# EAGLE library part WM8741 (library ICs)
Very high performance 24bit 192kHz Wolfson Micro audio DAC.
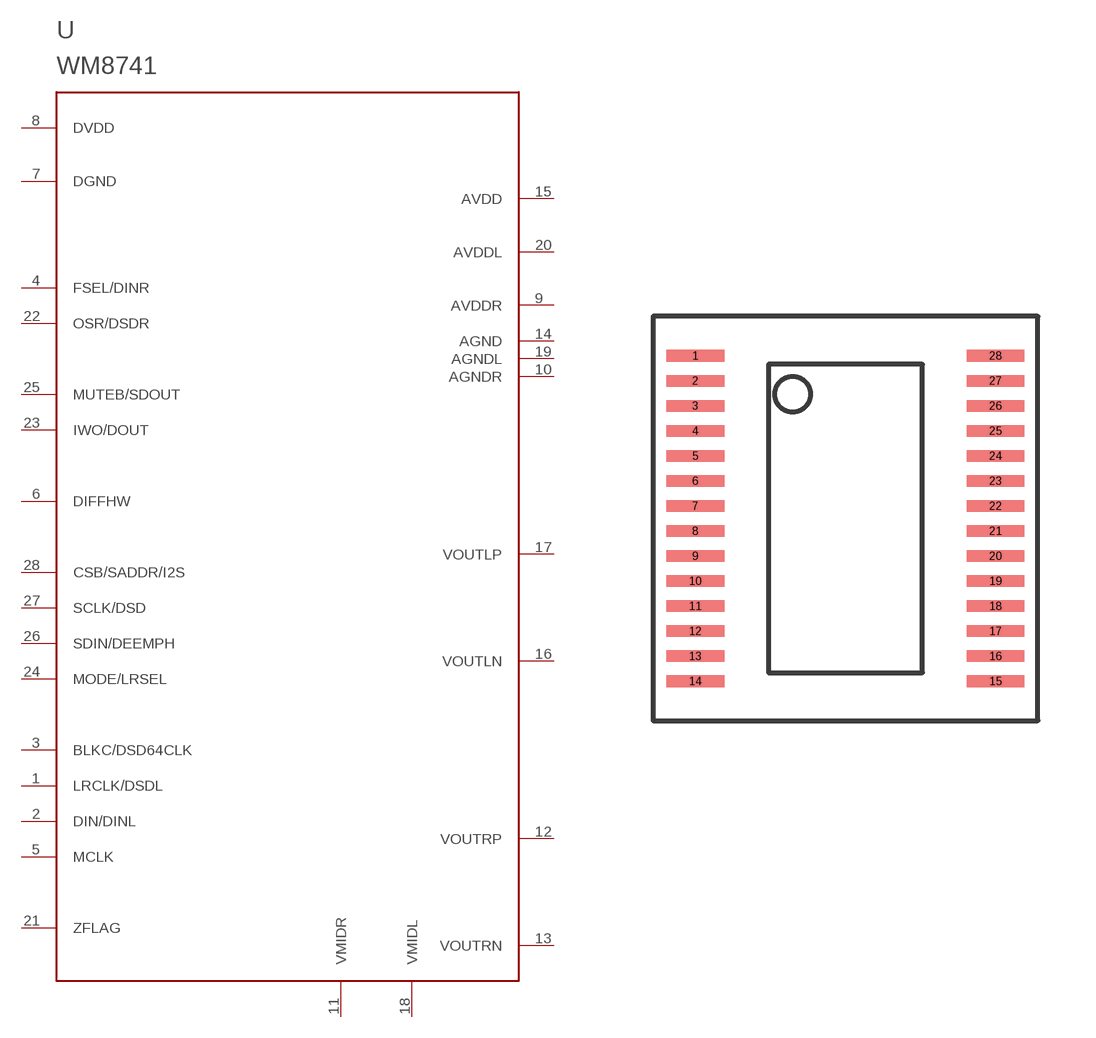
[diagram p24: symbol with the pads of SSOP28; footprint SSOP28]

Designator prefix U

## WM8741GEDS/V (FARNELL: 1776268)  [SSOP28]
1  LRCLK/DSDL
2  DIN/DINL
3  BLKC/DSD64CLK
4  FSEL/DINR
5  MCLK
6  DIFFHW
7  DGND
8  DVDD
9  AVDDR
10  AGNDR
11  VMIDR
12  VOUTRP
13  VOUTRN
14  AGND
15  AVDD
16  VOUTLN
17  VOUTLP
18  VMIDL
19  AGNDL
20  AVDDL
21  ZFLAG
22  OSR/DSDR
23  IWO/DOUT
24  MODE/LRSEL
25  MUTEB/SDOUT
26  SDIN/DEEMPH
27  SCLK/DSD
28  CSB/SADDR/I2S

## Footprint SSOP28 (pad centres in mm)
smd 1.5 x 0.3: 1 -3.9,4.225; 2 -3.9,3.575; 3 -3.9,2.925; 4 -3.9,2.275; 5 -3.9,1.625; 6 -3.9,0.975; 7 -3.9,0.325; 8 -3.9,-0.325; 9 -3.9,-0.975; 10 -3.9,-1.625; 11 -3.9,-2.275; 12 -3.9,-2.925; 13 -3.9,-3.575; 14 -3.9,-4.225; 15 3.9,-4.225; 16 3.9,-3.575; 17 3.9,-2.925; 18 3.9,-2.275; 19 3.9,-1.625; 20 3.9,-0.975; 21 3.9,-0.325; 22 3.9,0.325; 23 3.9,0.975; 24 3.9,1.625; 25 3.9,2.275; 26 3.9,2.925; 27 3.9,3.575; 28 3.9,4.225